# Altium footprint library inductor .PcbLib: 1 footprints
Each footprint in its own frame and in the unit in brackets; x right, y up, seen from the top. Pads: shape width x height; smd on the part's side, far side on the other; paste and mask are expansions set on the pad; w line width, h text height; cw(c..) or ccw(c..) is an arc to the next point about the centre after c.
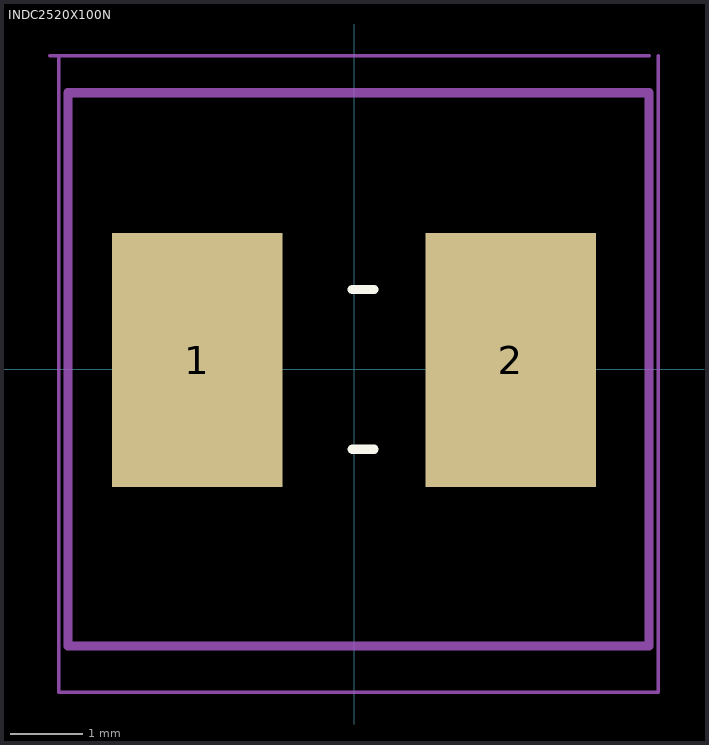
[diagram p0: the footprint, top view; thin cyan lines are the x and y axes]

## INDC2520X100N [mm]
pads (2):
  rect 2.35x3.5 smd: 1(-2.159,0.127) 2(2.159,0.127)
Top Overlay:
  lines w0.127: -0.023,-1.1 0.277,-1.1 ; -0.023,1.1 0.277,1.1
Mechanical 13:
  lines w0.127: -3.937,-3.81 -3.937,3.81 4.064,3.81 4.064,-3.81 -3.937,-3.81
Mechanical 15:
  lines w0.05: -4.191,4.318 4.064,4.318 ; -4.064,4.318 -4.064,-4.445 4.191,-4.445 4.191,4.318
3D body "Inductor_SMD_AMPLF_0650.STEP": height 5.01, standoff 0, extent -3.65,-3.223 3.65,3.477